# Altium schematic symbol library Chip Resistor - Surface Mount.SchLib: 39 symbols
Pins are listed as number, name and electrical type; pins without a type are passive.

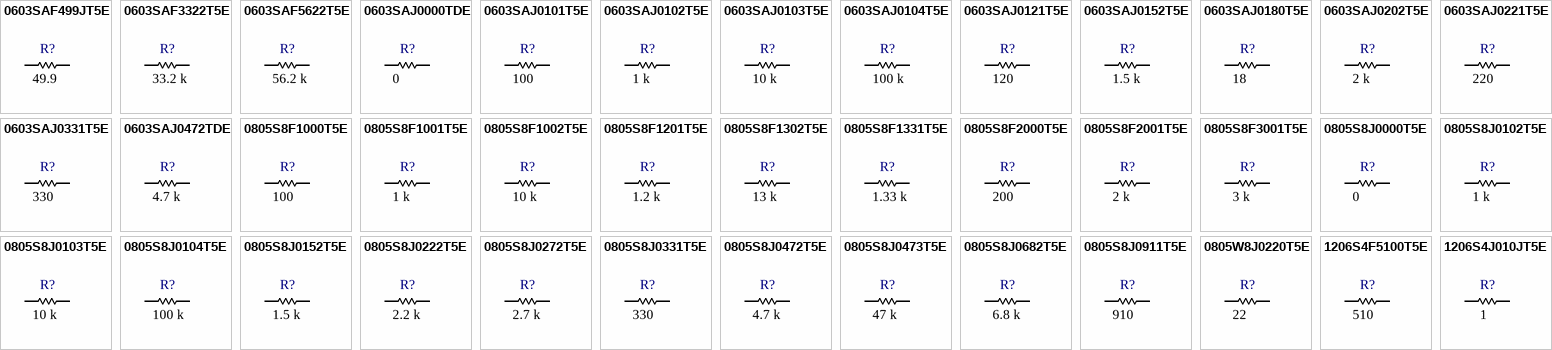
[diagram p0: symbols 0603SAF499JT5E to 1206S4J010JT5E]

## 0603SAF499JT5E
designator R?  Resistance: 49.9  (hidden comment: *)
RES SMD 49.9 OHM 1% 1/10W 0603
footprint ROYALOHM_RES_0603
pins: 1, 2

## 0603SAF3322T5E
designator R?  Resistance: 33.2 k  (hidden comment: *)
RES SMD 33.2K OHM 1% 1/10W 0603
footprint ROYALOHM_RES_0603
pins: 1, 2

## 0603SAF5622T5E
designator R?  Resistance: 56.2 k  (hidden comment: *)
RES SMD 56.2K OHM 1% 1/10W 0603
footprint ROYALOHM_RES_0603
pins: 1, 2

## 0603SAJ0000TDE
designator R?  Resistance: 0  (hidden comment: *)
RES SMD 0 OHM 5% 1/10W 0603
footprint ROYALOHM_RES_0603
pins: 1, 2

## 0603SAJ0101T5E
designator R?  Resistance: 100  (hidden comment: *)
RES SMD 100 OHM 5% 1/10W 0603
footprint ROYALOHM_RES_0603
pins: 1, 2

## 0603SAJ0102T5E
designator R?  Resistance: 1 k  (hidden comment: *)
RES SMD 1K OHM 5% 1/10W 0603
footprint ROYALOHM_RES_0603
pins: 1, 2

## 0603SAJ0103T5E
designator R?  Resistance: 10 k  (hidden comment: *)
RES SMD 10K OHM 5% 1/10W 0603
footprint ROYALOHM_RES_0603
pins: 1, 2

## 0603SAJ0104T5E
designator R?  Resistance: 100 k  (hidden comment: *)
RES SMD 100K OHM 5% 1/10W 0603
footprint ROYALOHM_RES_0603
pins: 1, 2

## 0603SAJ0121T5E
designator R?  Resistance: 120  (hidden comment: *)
RES SMD 120R OHM 5% 1/10W 0603
footprint ROYALOHM_RES_0603
pins: 1, 2

## 0603SAJ0152T5E
designator R?  Resistance: 1.5 k  (hidden comment: *)
RES SMD 1.5K OHM 5% 1/10W 0603
footprint ROYALOHM_RES_0603
pins: 1, 2

## 0603SAJ0180T5E
designator R?  Resistance: 18  (hidden comment: *)
RES SMD 18 OHM 5% 1/10W 0603
footprint ROYALOHM_RES_0603
pins: 1, 2

## 0603SAJ0202T5E
designator R?  Resistance: 2 k  (hidden comment: *)
RES SMD 2K OHM 5% 1/10W 0603
footprint ROYALOHM_RES_0603
pins: 1, 2

## 0603SAJ0221T5E
designator R?  Resistance: 220  (hidden comment: *)
RES SMD 220R OHM 5% 1/10W 0603
footprint ROYALOHM_RES_0603
pins: 1, 2

## 0603SAJ0331T5E
designator R?  Resistance: 330  (hidden comment: *)
RES SMD 330R OHM 5% 1/10W 0603
footprint ROYALOHM_RES_0603
pins: 1, 2

## 0603SAJ0472TDE
designator R?  Resistance: 4.7 k  (hidden comment: *)
RES SMD 4.7K OHM 5% 1/10W 0603
footprint ROYALOHM_RES_0603
pins: 1, 2

## 0805S8F1000T5E
designator R?  Resistance: 100  (hidden comment: *)
RES SMD 100R OHM 1% 1/8W 0805
footprint ROYALOHM_RES_0805
pins: 1, 2

## 0805S8F1001T5E
designator R?  Resistance: 1 k  (hidden comment: *)
RES SMD 1K OHM 1% 1/8W 0805
footprint ROYALOHM_RES_0805
pins: 1, 2

## 0805S8F1002T5E
designator R?  Resistance: 10 k  (hidden comment: *)
RES SMD 10K OHM 1% 1/8W 0805
footprint ROYALOHM_RES_0805
pins: 1, 2

## 0805S8F1201T5E
designator R?  Resistance: 1.2 k  (hidden comment: *)
RES SMD 1.2K OHM 1% 1/8W 0805
footprint ROYALOHM_RES_0805
pins: 1, 2

## 0805S8F1302T5E
designator R?  Resistance: 13 k  (hidden comment: *)
RES SMD 13K OHM 1% 1/8W 0805
footprint ROYALOHM_RES_0805
pins: 1, 2

## 0805S8F1331T5E
designator R?  Resistance: 1.33 k  (hidden comment: *)
RES SMD 1.33K OHM 1% 1/8W 0805
footprint ROYALOHM_RES_0805
pins: 1, 2

## 0805S8F2000T5E
designator R?  Resistance: 200  (hidden comment: *)
RES SMD 200R OHM 1% 1/8W 0805
footprint ROYALOHM_RES_0805
pins: 1, 2

## 0805S8F2001T5E
designator R?  Resistance: 2 k  (hidden comment: *)
RES SMD 2K OHM 1% 1/8W 0805
footprint ROYALOHM_RES_0805
pins: 1, 2

## 0805S8F3001T5E
designator R?  Resistance: 3 k  (hidden comment: *)
RES SMD 3K OHM 1% 1/8W 0805
footprint ROYALOHM_RES_0805
pins: 1, 2

## 0805S8J0000T5E
designator R?  Resistance: 0  (hidden comment: *)
RES SMD 0 OHM 5% 1/8W 0805
footprint ROYALOHM_RES_0805
pins: 1, 2

## 0805S8J0102T5E
designator R?  Resistance: 1 k  (hidden comment: *)
RES SMD 1K OHM 5% 1/8W 0805
footprint ROYALOHM_RES_0805
pins: 1, 2

## 0805S8J0103T5E
designator R?  Resistance: 10 k  (hidden comment: *)
RES SMD 10K OHM 5% 1/8W 0805
footprint ROYALOHM_RES_0805
pins: 1, 2

## 0805S8J0104T5E
designator R?  Resistance: 100 k  (hidden comment: *)
RES SMD 100K OHM 5% 1/8W 0805
footprint ROYALOHM_RES_0805
pins: 1, 2

## 0805S8J0152T5E
designator R?  Resistance: 1.5 k  (hidden comment: *)
RES SMD 1.5K OHM 5% 1/8W 0805
footprint ROYALOHM_RES_0805
pins: 1, 2

## 0805S8J0222T5E
designator R?  Resistance: 2.2 k  (hidden comment: *)
RES SMD 2.2K OHM 5% 1/8W 0805
footprint ROYALOHM_RES_0805
pins: 1, 2

## 0805S8J0272T5E
designator R?  Resistance: 2.7 k  (hidden comment: *)
RES SMD 2.7K OHM 5% 1/8W 0805
footprint ROYALOHM_RES_0805
pins: 1, 2

## 0805S8J0331T5E
designator R?  Resistance: 330  (hidden comment: *)
RES SMD 330R OHM 5% 1/8W 0805
footprint ROYALOHM_RES_0805
pins: 1, 2

## 0805S8J0472T5E
designator R?  Resistance: 4.7 k  (hidden comment: *)
RES SMD 4.7K OHM 5% 1/8W 0805
footprint ROYALOHM_RES_0805
pins: 1, 2

## 0805S8J0473T5E
designator R?  Resistance: 47 k  (hidden comment: *)
RES SMD 47K OHM 5% 1/8W 0805
footprint ROYALOHM_RES_0805
pins: 1, 2

## 0805S8J0682T5E
designator R?  Resistance: 6.8 k  (hidden comment: *)
RES SMD 6.8K OHM 5% 1/8W 0805
footprint ROYALOHM_RES_0805
pins: 1, 2

## 0805S8J0911T5E
designator R?  Resistance: 910  (hidden comment: *)
RES SMD 910R OHM 5% 1/8W 0805
footprint ROYALOHM_RES_0805
pins: 1, 2

## 0805W8J0220T5E
designator R?  Resistance: 22  (hidden comment: *)
RES SMD 22 OHM 5% 1/8W 0805
footprint ROYALOHM_RES_0805
pins: 1, 2

## 1206S4F5100T5E
designator R?  Resistance: 510  (hidden comment: *)
RES SMD 510 OHM 1% 1/4W 1206
footprint ROYALOHM_RES_1206
pins: 1, 2

## 1206S4J010JT5E
designator R?  Resistance: 1  (hidden comment: *)
RES SMD 1 OHM 5% 1/4W 1206
footprint ROYALOHM_RES_1206
pins: 1, 2